# Altium footprint library Bran.PcbLib: 102 footprints (part 4 of 7)
Each footprint in its own frame and in the unit in brackets; x right, y up, seen from the top. Pads: shape width x height; smd on the part's side, far side on the other; paste and mask are expansions set on the pad; w line width, h text height; cw(c..) or ccw(c..) is an arc to the next point about the centre after c.
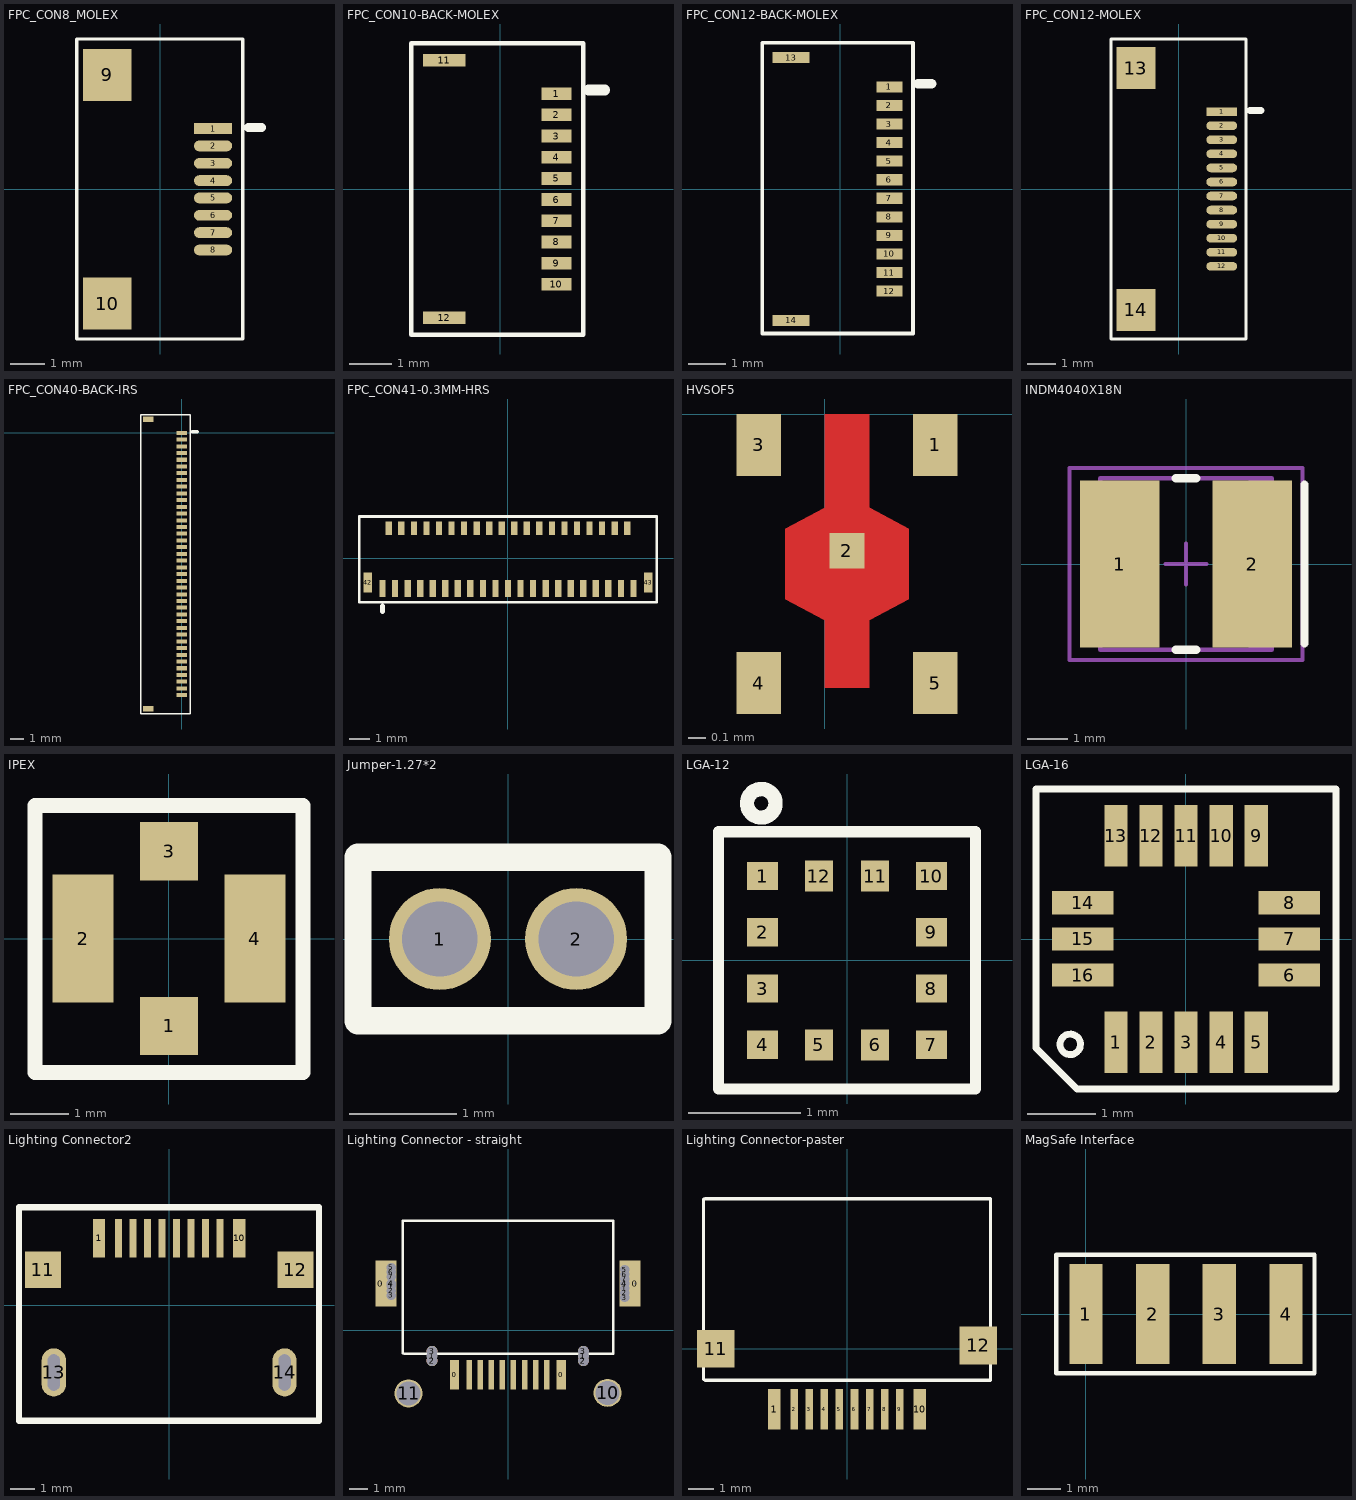
[diagram p3: the footprints below, top view; thin cyan lines are the x and y axes]

## FPC_CON8_MOLEX [mm]
pads (10):
  rect 1.1x0.31 smd: 1(1.525,1.75)
  oval 1.1x0.31 smd: 2(1.525,1.25) 3(1.525,0.75) 4(1.525,0.25) 5(1.525,-0.25) 6(1.525,-0.75) 7(1.525,-1.25) 8(1.525,-1.75)
  rect 1.4x1.5 smd: 9(-1.525,3.3) 10(-1.525,-3.3)
Top Overlay:
  lines w0.1: -2.413,-4.318 -2.413,4.334 2.385,4.334 2.385,-4.318 -2.413,-4.318
  lines w0.254: 2.54,1.778 2.921,1.778

## FPC_CON10-BACK-MOLEX [mm] "厂家：Molex，型号：5034801000_sd"
pads (12):
  rect 0.7x0.3 smd: 1(1.325,2.25) 2(1.325,1.75) 3(1.325,1.25) 4(1.325,0.75) 5(1.325,0.25) 6(1.325,-0.25) 7(1.325,-0.75) 8(1.325,-1.25) 9(1.325,-1.75) 10(1.325,-2.25)
  rect 1x0.3 smd: 11(-1.325,3.04) 12(-1.325,-3.04)
Top Overlay:
  lines w0.1: -2.104,-3.437 1.96,-3.437 1.96,3.437 -2.104,3.437 -2.104,-3.437
  lines w0.254: 2.087,2.338 2.468,2.338
3D body: height 1, standoff 0, extent -1.927,-3.292 1.777,3.292

## FPC_CON12-BACK-MOLEX [mm]
pads (14):
  rect 0.7x0.3 smd: 1(1.325,2.75) 2(1.325,2.25) 3(1.325,1.75) 4(1.325,1.25) 5(1.325,0.75) 6(1.325,0.25) 7(1.325,-0.25) 8(1.325,-0.75) 9(1.325,-1.25) 10(1.325,-1.75) 11(1.325,-2.25) 12(1.325,-2.75)
  rect 1x0.3 smd: 13(-1.325,3.54) 14(-1.325,-3.54)
Top Overlay:
  lines w0.1: -2.104,-3.893 1.96,-3.893 1.96,3.937 -2.104,3.937 -2.104,-3.893
  lines w0.254: 2.087,2.838 2.468,2.838
3D body: height 1, standoff 0, extent -1.927,-3.792 1.777,3.792

## FPC_CON12-MOLEX [mm]
pads (14):
  rect 1.1x0.31 smd: 1(1.525,2.75)
  oval 1.1x0.31 smd: 2(1.525,2.25) 3(1.525,1.75) 4(1.525,1.25) 5(1.525,0.75) 6(1.525,0.25) 7(1.525,-0.25) 8(1.525,-0.75) 9(1.525,-1.25) 10(1.525,-1.75) 11(1.525,-2.25) 12(1.525,-2.75)
  rect 1.4x1.5 smd: 13(-1.525,4.3) 14(-1.525,-4.3)
Top Overlay:
  lines w0.1: -2.413,-5.334 2.385,-5.334 2.385,5.334 -2.413,5.334 -2.413,-5.334
  lines w0.254: 2.54,2.794 2.921,2.794

## FPC_CON40-BACK-IRS [mm]
pads (42):
  rect 0.8x0.3 smd: 1(0,0) 2(0,-0.5) 3(0,-1) 4(0,-1.5) 5(0,-2) 6(0,-2.5) 7(0,-3) 8(0,-3.5) 9(0,-4) 10(0,-4.5) 11(0,-5) 12(0,-5.5) 13(0,-6) 14(0,-6.5) 15(0,-7) 16(0,-7.5) 17(0,-8) 18(0,-8.5) 19(0,-9) 20(0,-9.5) 21(0,-10) 22(0,-10.5) 23(0,-11) 24(0,-11.5) 25(0,-12) 26(0,-12.5) 27(0,-13) 28(0,-13.5) 29(0,-14) 30(0,-14.5) 31(0,-15) 32(0,-15.5) 33(0,-16) 34(0,-16.5) 35(0,-17) 36(0,-17.5) 37(0,-18) 38(0,-18.5) 39(0,-19) 40(0,-19.5)
  rect 0.8x0.4 smd: 41(-2.5,1) 42(-2.5,-20.5)
Top Overlay:
  lines w0.1: -3.048,-20.897 -3.048,1.328 0.635,1.328 0.635,-20.897 -3.048,-20.897
  lines w0.254: 0.762,0.088 1.143,0.088

## FPC_CON41-0.3MM-HRS [mm] "厂家：HRS，型号：FH26W-41S-0.3SHW（05）"
pads (43):
  rect 0.3x0.8 smd: 1(-6,-1.438) 3(-5.4,-1.438) 5(-4.8,-1.438) 7(-4.2,-1.438) 9(-3.6,-1.438) 11(-3,-1.438) 13(-2.4,-1.438) 15(-1.8,-1.438) 17(-1.2,-1.438) 19(-0.6,-1.438) 21(0,-1.438) 23(0.6,-1.438) 25(1.2,-1.438) 27(1.8,-1.438) 29(2.4,-1.438) 31(3,-1.438) 33(3.6,-1.438) 35(4.2,-1.438) 37(4.8,-1.438) 39(5.4,-1.438) 41(6,-1.438)
  rect 0.3x0.65 smd: 2(-5.7,1.438) 4(-5.1,1.438) 6(-4.5,1.438) 8(-3.9,1.438) 10(-3.3,1.438) 12(-2.7,1.438) 14(-2.1,1.438) 16(-1.5,1.438) 18(-0.9,1.438) 20(-0.3,1.438) 22(0.3,1.438) 24(0.9,1.438) 26(1.5,1.438) 28(2.1,1.438) 30(2.7,1.438) 32(3.3,1.438) 34(3.9,1.438) 36(4.5,1.438) 38(5.1,1.438) 40(5.7,1.438)
  rect 0.4x0.95 smd: 42(-6.7,-1.162) 43(6.7,-1.162)
Top Overlay:
  lines w0.127: -7.112,-2.1 -7.112,2 7.112,2 7.112,-2.1 -7.112,-2.1
  lines w0.254: -6,-2.54 -6,-2.286

## HVSOF5 [mm]
pads (5):
  rect 0.25x0.35 smd: 1(0.625,-0.175) 3(-0.375,-0.175) 4(-0.375,-1.525) 5(0.625,-1.525)
  rect 0.2x0.2 smd: 2(0.125,-0.775)
Top Layer:
  region: -0.225,-1.05 0,-1.17 0,-1.55 0.25,-1.55 0.25,-1.17 0.475,-1.05 0.475,-0.65 0.254,-0.53 0.25,-0.53 0.25,0 0,0 0,-0.53 -0.225,-0.65
Top Paste:
  region: -0.225,-1.05 0,-1.17 0,-1.55 0.25,-1.55 0.25,-1.17 0.475,-1.05 0.475,-0.65 0.254,-0.53 0.25,-0.53 0.25,0 0,0 0,-0.53 -0.225,-0.65
Top Solder:
  region: -0.225,-1.05 0,-1.17 0,-1.55 0.25,-1.55 0.25,-1.17 0.475,-1.05 0.475,-0.65 0.254,-0.53 0.25,-0.53 0.25,0 0,0 0,-0.53 -0.225,-0.65

## INDM4040X18N [mm] "Molded Inductor, 2-Leads, Body 4.0x4.0mm, IPC Medium Density"
height 1.8
pads (2):
  rect 1.95x4.1 smd: 1(-1.625,0) 2(1.625,0)
Top Overlay:
  lines w0.2: -0.25,-2.1 0.25,-2.1 ; -0.25,2.1 0.25,2.1 ; 2.9,-1.95 2.9,1.95
Mechanical 13:
  rectangle: 1.535,-2.1 2.1,2.1
  lines w0.1: -2.1,-2.1 2.1,-2.1 2.1,2.1 -2.1,2.1 -2.1,-2.1
Mechanical 15:
  lines w0.1: -0.5,0 0.5,0 ; 0,-0.5 0,0.5 ; -2.85,-2.35 2.85,-2.35 2.85,2.35 -2.85,2.35 -2.85,-2.35
3D body: height 1.8, standoff 0, extent -2.1,-2.1 2.1,2.1

## IPEX [mm]
pads (4):
  rect 1x1 smd: 1(0,-1.5) 3(0,1.5)
  rect 1.05x2.2 smd: 2(-1.475,0) 4(1.475,0)
Top Overlay:
  lines w0.254: -2.3,2.286 -2.3,-2.3 2.3,-2.3 2.3,2.286 -2.286,2.286

## Jumper-1.27*2 [mm]
pads (2):
  round 0.95 hole 0.7: 1(-0.635,0) 2(0.635,0)
Top Overlay:
  lines w0.254: -1.397,-0.762 1.397,-0.762 1.397,0.762 -1.397,0.762 -1.397,-0.762
3D body: height 0, standoff 0, extent -1.212,-0.577 1.212,0.577

## LGA-12 [mm]
pads (12):
  rect 0.275x0.25 smd: 1(-0.75,0.75) 2(-0.75,0.25) 3(-0.75,-0.25) 4(-0.75,-0.75) 7(0.75,-0.75) 8(0.75,-0.25) 9(0.75,0.25) 10(0.75,0.75)
  rect 0.25x0.275 smd: 5(-0.25,-0.75) 6(0.25,-0.75) 11(0.25,0.75) 12(-0.25,0.75)
Top Overlay:
  circle w0.127: c-0.762,1.397 r0.127
  lines w0.1: -1.143,-1.143 -1.143,1.143 1.143,1.143 1.143,-1.143 -1.143,-1.143

## LGA-16 [mm]
pads (16):
  rect 0.34x0.9 smd: 1(-1.029,-1.514) 2(-0.514,-1.514) 3(0.001,-1.514) 4(0.516,-1.514) 5(1.031,-1.514) 9(1.031,1.514) 10(0.516,1.514) 11(0.001,1.514) 12(-0.514,1.514) 13(-1.029,1.514)
  rect 0.9x0.34 smd: 6(1.514,-0.529) 7(1.514,0.001) 8(1.514,0.531) 14(-1.514,0.531) 15(-1.514,0.001) 16(-1.514,-0.529)
Top Overlay:
  lines w0.1: -1.549,-1.524 ccw(c-1.698,-1.545) -1.548,-1.545 ; -2.2,-1.6 -2.2,2.2 2.2,2.2 2.2,-2.2 -1.6,-2.2 -2.2,-1.6
3D body: height 1, standoff 0, extent -2.065,-2.065 2.065,2.065

## Lighting Connector2 [mm]
pads (14):
  rect 0.5x1.6 smd: 1(-2.9,2.775) 10(2.9,2.775)
  rect 0.3x1.6 smd: 2(-2.1,2.775) 3(-1.5,2.775) 4(-0.9,2.775) 5(-0.3,2.775) 6(0.3,2.775) 7(0.9,2.775) 8(1.5,2.775) 9(2.1,2.775)
  rect 1.5x1.5 smd: 11(-5.225,1.475) 12(5.225,1.475)
  oval 1x2 hole 0.5 slot 1.5 at 90 deg: 13(-4.775,-2.775) 14(4.775,-2.775)
Top Overlay:
  lines w0.254: -6.214,-4.775 -6.214,4.064 ; -6.2,-4.775 6.2,-4.775 6.2,4.064 -6.2,4.064
3D body: height 0, standoff 0, extent -5.377,-3.877 5.377,-1.673
3D body: height 3.1, standoff 0, extent -6.077,-3.877 6.077,3.677

## Lighting Connector - straight [mm]
pads (34):
  rect 0.6x2.5 hole 0.1: 0(-6.906,2.545) 0(6.906,2.545)
  rect 0.5x1.6 smd: 0(-2.902,-2.417) 0(2.898,-2.417)
  rect 0.3x1.6 smd: 0(-2.102,-2.417) 0(-1.502,-2.417) 0(-0.902,-2.417) 0(-0.302,-2.417) 0(0.298,-2.417) 0(0.898,-2.417) 0(1.498,-2.417) 0(2.098,-2.417)
  round 0.5 hole 0.5: 1(-6.352,2.409) 1(6.352,2.291) 2(-6.352,2.155) 2(6.352,2.037) 3(-6.352,1.901) 3(6.352,1.783) 5(-6.352,3.425) 5(6.352,3.307) 6(-6.352,3.171) 6(6.352,3.053) 7(-6.352,2.917) 7(6.352,2.799)
  oval 0.5x0.6 hole 0.6 unplated: 1(-4.129,-1.393)
  round 0.6 hole 0.6 unplated: 1(4.099,-1.393) 2(-4.129,-1.647) 2(4.099,-1.647) 3(-4.129,-1.139) 3(4.099,-1.139)
  rect 0.6x2.5 hole 0.5: 4(-6.352,2.545) 4(6.352,2.545)
  round 1.524 hole 1.3: 10(5.416,-3.394) 11(-5.409,-3.424)
Top Overlay:
  lines w0.127: -5.721,-1.237 -5.721,5.959 ; -5.654,5.969 5.715,5.969 ; -5.648,-1.266 5.721,-1.266 ; 5.721,-1.237 5.721,5.959

## Lighting Connector-paster [mm]
pads (12):
  rect 0.5x1.6 smd: 1(-2.902,-2.417) 10(2.898,-2.417)
  rect 0.3x1.6 smd: 2(-2.102,-2.417) 3(-1.502,-2.417) 4(-0.902,-2.417) 5(-0.302,-2.417) 6(0.298,-2.417) 7(0.898,-2.417) 8(1.498,-2.417) 9(2.098,-2.417)
  rect 1.5x1.5 smd: 11(-5.225,-0.004) 12(5.225,0.123)
Top Overlay:
  lines w0.127: -5.721,-1.237 -5.721,5.959 ; -5.654,5.969 5.715,5.969 ; -5.648,-1.266 5.721,-1.266 ; 5.721,-1.237 5.721,5.959

## MagSafe Interface [mm]
pads (4):
  rect 1x3 smd: 1(0,0) 2(2,0) 3(4,0) 4(6,0)
Top Overlay:
  lines w0.127: -0.889,-1.778 6.858,-1.778 6.858,1.778 -0.889,1.778 -0.889,-1.778